# Altium integrated library NSC Discrete JFET.IntLib: 140 symbols (part 2 of 2)
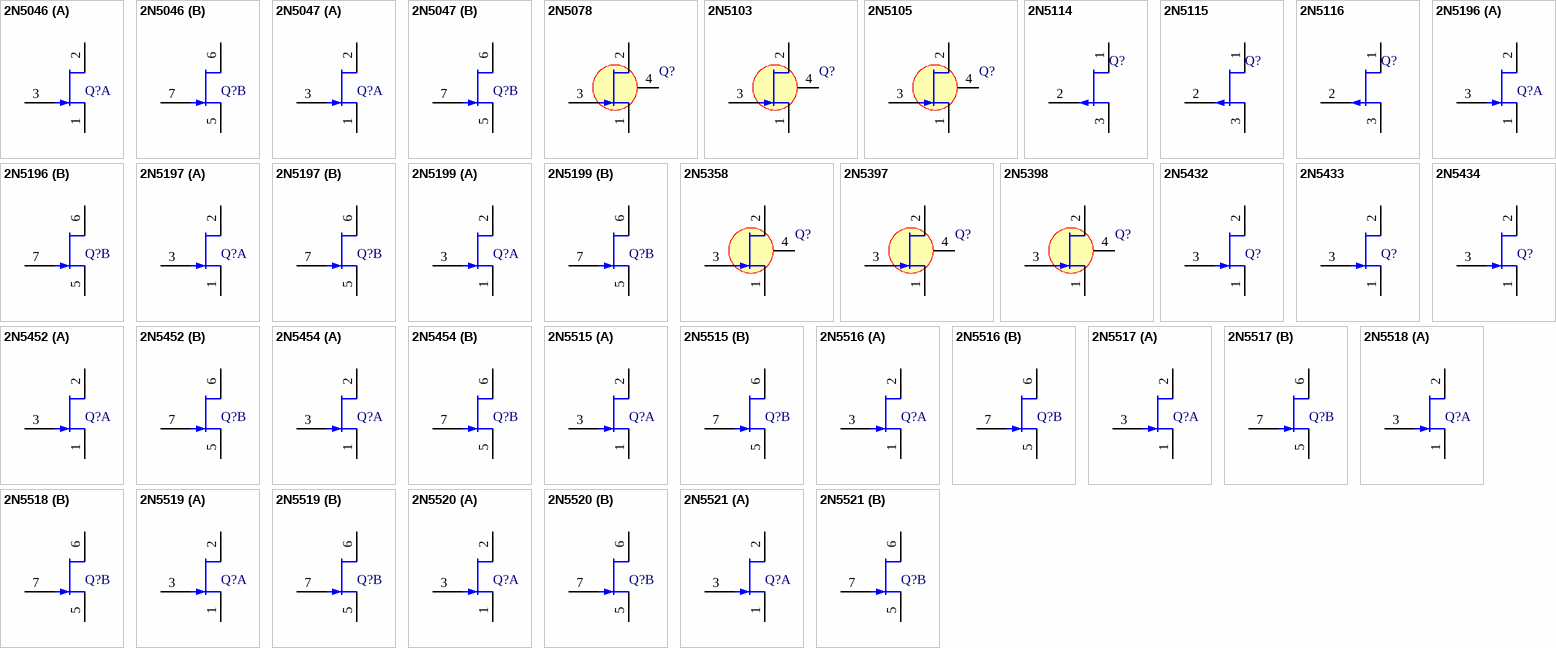
[diagram p6: symbols 2N5046 to 2N5521]

## 2N5521
designator Q?
N-Channel Dual JFET (Low Frequency-Low Noise); PackageDocument: 1989; Note: Pin 4 is missing and is not drawn; Published: 8-Jun-2000; LatestRevisionDate: 17-Jul-2002; LatestRevisionNote: Re-released for DXP Platform.; DatasheetDocument: 1989; PackageReference: TO-71; Publisher: Altium Limited; ComponentLink1Description: Manufacturer Link; ComponentLink1URL: http://www.national.com/
footprint TO-71 (Can; 7 Leads (1 Absent); Pin Circle Dia. 2.54 mm; Lead Dia. 0.48 mm (max))
simulation model 2N5521 (NJFET)
part A pins: 1 S, 2 D, 3 G
part B pins: 5 S, 6 D, 7 G

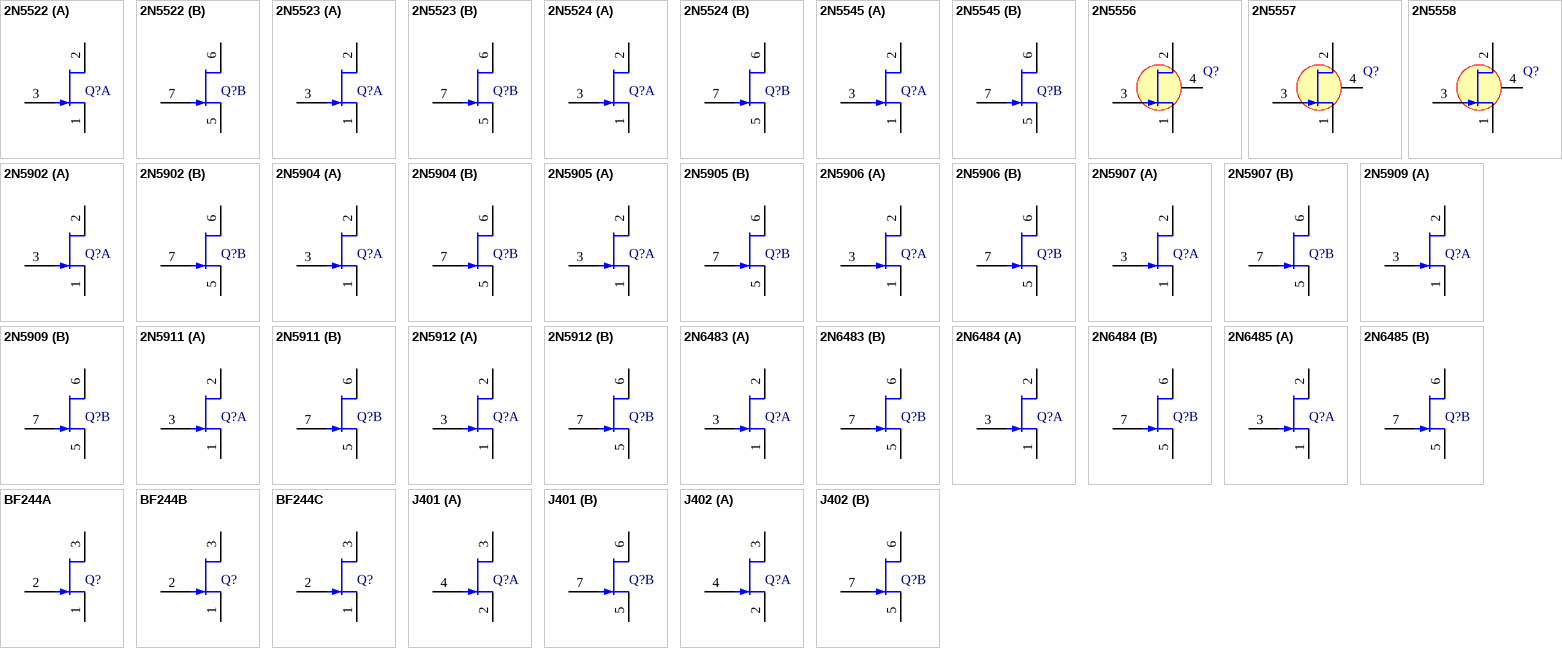
[diagram p3: symbols 2N5522 to J402]

## 2N5522
designator Q?
N-Channel Dual JFET (Low Frequency-Low Noise); PackageDocument: 1989; Note: Pin 4 is missing and is not drawn; Published: 8-Jun-2000; LatestRevisionDate: 17-Jul-2002; LatestRevisionNote: Re-released for DXP Platform.; DatasheetDocument: 1989; PackageReference: TO-71; Publisher: Altium Limited; ComponentLink1Description: Manufacturer Link; ComponentLink1URL: http://www.national.com/
footprint TO-71 (Can; 7 Leads (1 Absent); Pin Circle Dia. 2.54 mm; Lead Dia. 0.48 mm (max))
simulation model 2N5522 (NJFET)
part A pins: 1 S, 2 D, 3 G
part B pins: 5 S, 6 D, 7 G

## 2N5523
designator Q?
N-Channel Dual JFET (Low Frequency-Low Noise); PackageDocument: 1989; Note: Pin 4 is missing and is not drawn; Published: 8-Jun-2000; LatestRevisionDate: 17-Jul-2002; LatestRevisionNote: Re-released for DXP Platform.; DatasheetDocument: 1989; PackageReference: TO-71; Publisher: Altium Limited; ComponentLink1Description: Manufacturer Link; ComponentLink1URL: http://www.national.com/
footprint TO-71 (Can; 7 Leads (1 Absent); Pin Circle Dia. 2.54 mm; Lead Dia. 0.48 mm (max))
simulation model 2N5523 (NJFET)
part A pins: 1 S, 2 D, 3 G
part B pins: 5 S, 6 D, 7 G

## 2N5524
designator Q?
N-Channel Dual JFET (Low Frequency-Low Noise); PackageDocument: 1989; Note: Pin 4 is missing and is not drawn; Published: 8-Jun-2000; LatestRevisionDate: 17-Jul-2002; LatestRevisionNote: Re-released for DXP Platform.; DatasheetDocument: 1989; PackageReference: TO-71; Publisher: Altium Limited; ComponentLink1Description: Manufacturer Link; ComponentLink1URL: http://www.national.com/
footprint TO-71 (Can; 7 Leads (1 Absent); Pin Circle Dia. 2.54 mm; Lead Dia. 0.48 mm (max))
simulation model 2N5524 (NJFET)
part A pins: 1 S, 2 D, 3 G
part B pins: 5 S, 6 D, 7 G

## 2N5545
designator Q?
N-Channel Dual JFET (General Purpose); PackageDocument: 1989; Note: Pin 4 is missing and is not drawn; Published: 8-Jun-2000; LatestRevisionDate: 17-Jul-2002; LatestRevisionNote: Re-released for DXP Platform.; DatasheetDocument: 1989; PackageReference: TO-71; Publisher: Altium Limited; ComponentLink1Description: Manufacturer Link; ComponentLink1URL: http://www.national.com/
footprint TO-71 (Can; 7 Leads (1 Absent); Pin Circle Dia. 2.54 mm; Lead Dia. 0.48 mm (max))
simulation model 2N5545 (NJFET)
part A pins: 1 S, 2 D, 3 G
part B pins: 5 S, 6 D, 7 G

## 2N5556
designator Q?
N-Channel JFET (General Purpose Amplifier); PackageDocument: 1989; Note: Pin 4 is connected to case; Published: 8-Jun-2000; LatestRevisionDate: 17-Jul-2002; LatestRevisionNote: Re-released for DXP Platform.; DatasheetDocument: 1989; PackageReference: TO-72; Publisher: Altium Limited; ComponentLink1Description: Manufacturer Link; ComponentLink1URL: http://www.national.com/
footprint TO-72 (Can; 4 Leads; Pin Circle Dia. 2.54 mm; Lead Dia. 0.48 mm (max))
simulation model 2N5556 (NJFET)
pins: 1 S, 2 D, 3 G, 4 C

## 2N5557
designator Q?
N-Channel JFET (General Purpose Amplifier); PackageDocument: 1989; Note: Pin 4 is connected to case; Published: 8-Jun-2000; LatestRevisionDate: 17-Jul-2002; LatestRevisionNote: Re-released for DXP Platform.; DatasheetDocument: 1989; PackageReference: TO-72; Publisher: Altium Limited; ComponentLink1Description: Manufacturer Link; ComponentLink1URL: http://www.national.com/
footprint TO-72 (Can; 4 Leads; Pin Circle Dia. 2.54 mm; Lead Dia. 0.48 mm (max))
simulation model 2N5557 (NJFET)
pins: 1 S, 2 D, 3 G, 4 C

## 2N5558
designator Q?
N-Channel JFET (General Purpose Amplifier); PackageDocument: 1989; Note: Pin 4 is connected to case; Published: 8-Jun-2000; LatestRevisionDate: 17-Jul-2002; LatestRevisionNote: Re-released for DXP Platform.; DatasheetDocument: 1989; PackageReference: TO-72; Publisher: Altium Limited; ComponentLink1Description: Manufacturer Link; ComponentLink1URL: http://www.national.com/
footprint TO-72 (Can; 4 Leads; Pin Circle Dia. 2.54 mm; Lead Dia. 0.48 mm (max))
simulation model 2N5558 (NJFET)
pins: 1 S, 2 D, 3 G, 4 C

## 2N5902
designator Q?
N-Channel Dual JFET (Ultra Low Leakage); PackageDocument: 1989; Note: Pin 4 is not connected and not drawn; Published: 8-Jun-2000; LatestRevisionDate: 17-Jul-2002; LatestRevisionNote: Re-released for DXP Platform.; DatasheetDocument: 1989; PackageReference: TO-78; Publisher: Altium Limited; ComponentLink1Description: Manufacturer Link; ComponentLink1URL: http://www.national.com/
footprint TO-78 (Can; 7 Leads; Pin Circle Dia. 5.08 mm; Lead Dia. 0.48 mm (max))
simulation model 2N5902 (NJFET)
part A pins: 1 S, 2 D, 3 G
part B pins: 5 S, 6 D, 7 G

## 2N5904
designator Q?
N-Channel Dual JFET (Ultra Low Leakage); PackageDocument: 1989; Note: Pin 4 is not connected and not drawn; Published: 8-Jun-2000; LatestRevisionDate: 17-Jul-2002; LatestRevisionNote: Re-released for DXP Platform.; DatasheetDocument: 1989; PackageReference: TO-78; Publisher: Altium Limited; ComponentLink1Description: Manufacturer Link; ComponentLink1URL: http://www.national.com/
footprint TO-78 (Can; 7 Leads; Pin Circle Dia. 5.08 mm; Lead Dia. 0.48 mm (max))
simulation model 2N5904 (NJFET)
part A pins: 1 S, 2 D, 3 G
part B pins: 5 S, 6 D, 7 G

## 2N5905
designator Q?
N-Channel Dual JFET (Ultra Low Leakage); PackageDocument: 1989; Note: Pin 4 is not connected and not drawn; Published: 8-Jun-2000; LatestRevisionDate: 17-Jul-2002; LatestRevisionNote: Re-released for DXP Platform.; DatasheetDocument: 1989; PackageReference: TO-78; Publisher: Altium Limited; ComponentLink1Description: Manufacturer Link; ComponentLink1URL: http://www.national.com/
footprint TO-78 (Can; 7 Leads; Pin Circle Dia. 5.08 mm; Lead Dia. 0.48 mm (max))
simulation model 2N5905 (NJFET)
part A pins: 1 S, 2 D, 3 G
part B pins: 5 S, 6 D, 7 G

## 2N5906
designator Q?
N-Channel Dual JFET (Ultra Low Leakage); PackageDocument: 1989; Note: Pin 4 is not connected and not drawn; Published: 8-Jun-2000; LatestRevisionDate: 17-Jul-2002; LatestRevisionNote: Re-released for DXP Platform.; DatasheetDocument: 1989; PackageReference: TO-78; Publisher: Altium Limited; ComponentLink1Description: Manufacturer Link; ComponentLink1URL: http://www.national.com/
footprint TO-78 (Can; 7 Leads; Pin Circle Dia. 5.08 mm; Lead Dia. 0.48 mm (max))
simulation model 2N5906 (NJFET)
part A pins: 1 S, 2 D, 3 G
part B pins: 5 S, 6 D, 7 G

## 2N5907
designator Q?
N-Channel Dual JFET (Ultra Low Leakage); PackageDocument: 1989; Note: Pin 4 is not connected and not drawn; Published: 8-Jun-2000; LatestRevisionDate: 17-Jul-2002; LatestRevisionNote: Re-released for DXP Platform.; DatasheetDocument: 1989; PackageReference: TO-78; Publisher: Altium Limited; ComponentLink1Description: Manufacturer Link; ComponentLink1URL: http://www.national.com/
footprint TO-78 (Can; 7 Leads; Pin Circle Dia. 5.08 mm; Lead Dia. 0.48 mm (max))
simulation model 2N5907 (NJFET)
part A pins: 1 S, 2 D, 3 G
part B pins: 5 S, 6 D, 7 G

## 2N5909
designator Q?
N-Channel Dual JFET (Ultra Low Leakage); PackageDocument: 1989; Note: Pin 4 is not connected and not drawn; Published: 8-Jun-2000; LatestRevisionDate: 17-Jul-2002; LatestRevisionNote: Re-released for DXP Platform.; DatasheetDocument: 1989; PackageReference: TO-78; Publisher: Altium Limited; ComponentLink1Description: Manufacturer Link; ComponentLink1URL: http://www.national.com/
footprint TO-78 (Can; 7 Leads; Pin Circle Dia. 5.08 mm; Lead Dia. 0.48 mm (max))
simulation model 2N5909 (NJFET)
part A pins: 1 S, 2 D, 3 G
part B pins: 5 S, 6 D, 7 G

## 2N5911
designator Q?
N-Channel Dual JFET (Wide Band-Low Noise); PackageDocument: 1989; Note: Pin 4 is not connected and not drawn; Published: 8-Jun-2000; LatestRevisionDate: 17-Jul-2002; LatestRevisionNote: Re-released for DXP Platform.; DatasheetDocument: 1989; PackageReference: TO-78; Publisher: Altium Limited; ComponentLink1Description: Manufacturer Link; ComponentLink1URL: http://www.national.com/
footprint TO-78 (Can; 7 Leads; Pin Circle Dia. 5.08 mm; Lead Dia. 0.48 mm (max))
simulation model 2N5911 (NJFET)
part A pins: 1 S, 2 D, 3 G
part B pins: 5 S, 6 D, 7 G

## 2N5912
designator Q?
N-Channel Dual JFET (Wide Band-Low Noise); PackageDocument: 1989; Note: Pin 4 is not connected and not drawn; Published: 8-Jun-2000; LatestRevisionDate: 17-Jul-2002; LatestRevisionNote: Re-released for DXP Platform.; DatasheetDocument: 1989; PackageReference: TO-78; Publisher: Altium Limited; ComponentLink1Description: Manufacturer Link; ComponentLink1URL: http://www.national.com/
footprint TO-78 (Can; 7 Leads; Pin Circle Dia. 5.08 mm; Lead Dia. 0.48 mm (max))
simulation model 2N5912 (NJFET)
part A pins: 1 S, 2 D, 3 G
part B pins: 5 S, 6 D, 7 G

## 2N6483
designator Q?
N-Channel Dual JFET (Low Frequency-Low Noise); PackageDocument: 1989; Note: Pin 4 is missing and is not drawn; Published: 8-Jun-2000; LatestRevisionDate: 17-Jul-2002; LatestRevisionNote: Re-released for DXP Platform.; DatasheetDocument: 1989; PackageReference: TO-71; Publisher: Altium Limited; ComponentLink1Description: Manufacturer Link; ComponentLink1URL: http://www.national.com/
footprint TO-71 (Can; 7 Leads (1 Absent); Pin Circle Dia. 2.54 mm; Lead Dia. 0.48 mm (max))
simulation model 2N6483 (NJFET)
part A pins: 1 S, 2 D, 3 G
part B pins: 5 S, 6 D, 7 G

## 2N6484
designator Q?
N-Channel Dual JFET (Low Frequency-Low Noise); PackageDocument: 1989; Note: Pin 4 is missing and is not drawn; Published: 8-Jun-2000; LatestRevisionDate: 17-Jul-2002; LatestRevisionNote: Re-released for DXP Platform.; DatasheetDocument: 1989; PackageReference: TO-71; Publisher: Altium Limited; ComponentLink1Description: Manufacturer Link; ComponentLink1URL: http://www.national.com/
footprint TO-71 (Can; 7 Leads (1 Absent); Pin Circle Dia. 2.54 mm; Lead Dia. 0.48 mm (max))
simulation model 2N6484 (NJFET)
part A pins: 1 S, 2 D, 3 G
part B pins: 5 S, 6 D, 7 G

## 2N6485
designator Q?
N-Channel Dual JFET (Low Frequency-Low Noise); PackageDocument: 1989; Note: Pin 4 is missing and is not drawn; Published: 8-Jun-2000; LatestRevisionDate: 17-Jul-2002; LatestRevisionNote: Re-released for DXP Platform.; DatasheetDocument: 1989; PackageReference: TO-71; Publisher: Altium Limited; ComponentLink1Description: Manufacturer Link; ComponentLink1URL: http://www.national.com/
footprint TO-71 (Can; 7 Leads (1 Absent); Pin Circle Dia. 2.54 mm; Lead Dia. 0.48 mm (max))
simulation model 2N6485 (NJFET)
part A pins: 1 S, 2 D, 3 G
part B pins: 5 S, 6 D, 7 G

## BF244A
designator Q?
JFET Pro Electron; PackageDocument: 1989; Published: 8-Jun-2000; LatestRevisionDate: 17-Jul-2002; LatestRevisionNote: Re-released for DXP Platform.; DatasheetDocument: 1989; PackageReference: TO-92; Publisher: Altium Limited; ComponentLink1Description: Manufacturer Link; ComponentLink1URL: http://www.national.com/
footprint TO-92 (TO, Flat Index; 3 In-Line, Axial Leads; Body Dia. 4.6mm; Leads 0.41 x 0.39 mm (max))
simulation model BF244A (NJFET)
pins: 1 S, 2 G, 3 D

## BF244B
designator Q?
JFET Pro Electron; PackageDocument: 1989; Published: 8-Jun-2000; LatestRevisionDate: 17-Jul-2002; LatestRevisionNote: Re-released for DXP Platform.; DatasheetDocument: 1989; PackageReference: TO-92; Publisher: Altium Limited; ComponentLink1Description: Manufacturer Link; ComponentLink1URL: http://www.national.com/
footprint TO-92 (TO, Flat Index; 3 In-Line, Axial Leads; Body Dia. 4.6mm; Leads 0.41 x 0.39 mm (max))
simulation model BF244B (NJFET)
pins: 1 S, 2 G, 3 D

## BF244C
designator Q?
JFET Pro Electron; PackageDocument: 1989; Published: 8-Jun-2000; LatestRevisionDate: 17-Jul-2002; LatestRevisionNote: Re-released for DXP Platform.; DatasheetDocument: 1989; PackageReference: TO-92; Publisher: Altium Limited; ComponentLink1Description: Manufacturer Link; ComponentLink1URL: http://www.national.com/
footprint TO-92 (TO, Flat Index; 3 In-Line, Axial Leads; Body Dia. 4.6mm; Leads 0.41 x 0.39 mm (max))
simulation model BF244C (NJFET)
pins: 1 S, 2 G, 3 D

## J401
designator Q?
N-Channel Dual JFET (General Purpose); Note: Pins 1 and 8 are not connected and not drawn; Published: 8-Jun-2000; LatestRevisionDate: 06-Jun-2005; LatestRevisionNote: Stylized 3D Model Added.; DatasheetDocument: 1989; PackageDocument: Sep-1997; PackageReference: N08E; Publisher: Altium Limited; ComponentLink1Description: Manufacturer Link; ComponentLink1URL: http://www.national.com/
footprint N08E (DIP; 8 Leads; Row Spacing 7.62 mm; Pitch 2.54 mm)
3D model N08E (DIP; 8 Leads; Row Spacing 7.62 mm; Pitch 2.54 mm)
simulation model J401 (NJFET)
part A pins: 2 S, 3 D, 4 G
part B pins: 5 S, 6 D, 7 G

## J402
designator Q?
N-Channel Dual JFET (General Purpose); Note: Pins 1 and 8 are not connected and not drawn; Published: 8-Jun-2000; LatestRevisionDate: 06-Jun-2005; LatestRevisionNote: Stylized 3D Model Added.; DatasheetDocument: 1989; PackageDocument: Sep-1997; PackageReference: N08E; Publisher: Altium Limited; ComponentLink1Description: Manufacturer Link; ComponentLink1URL: http://www.national.com/
footprint N08E (DIP; 8 Leads; Row Spacing 7.62 mm; Pitch 2.54 mm)
3D model N08E (DIP; 8 Leads; Row Spacing 7.62 mm; Pitch 2.54 mm)
simulation model J402 (NJFET)
part A pins: 2 S, 3 D, 4 G
part B pins: 5 S, 6 D, 7 G

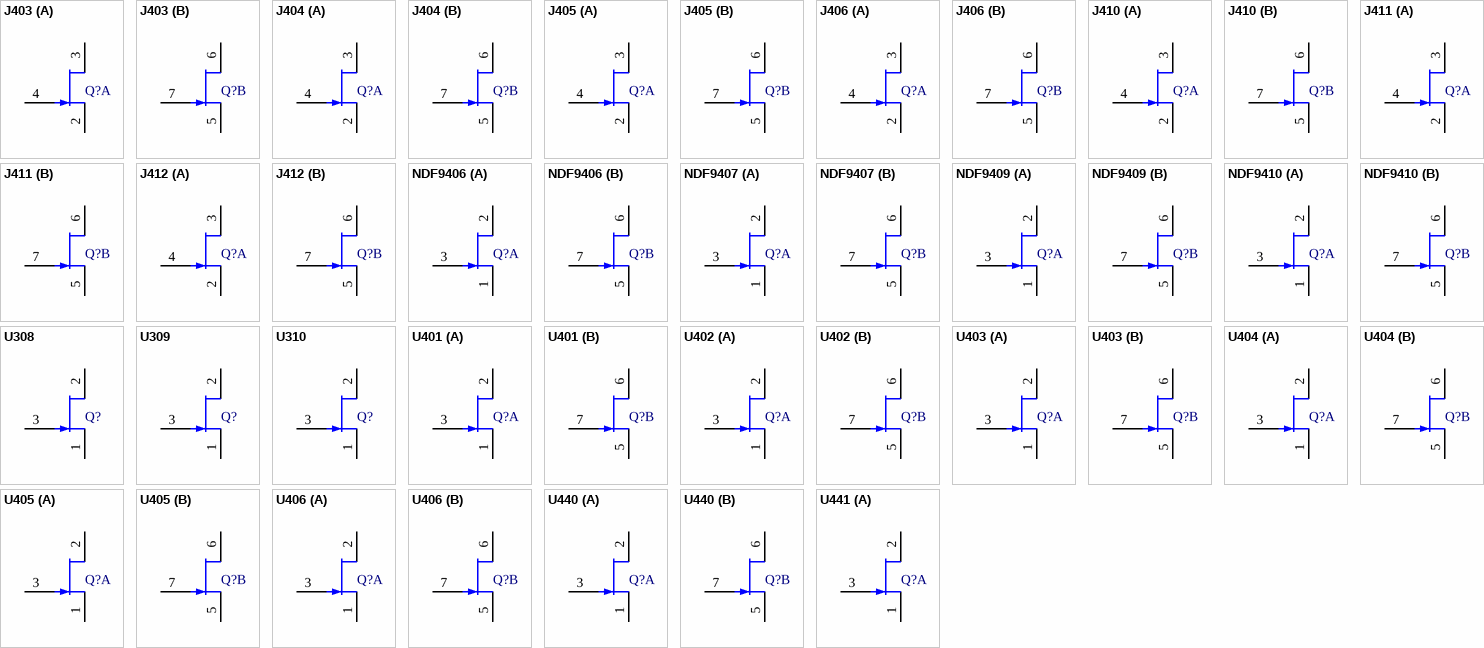
[diagram p4: symbols J403 to U441]

## J403
designator Q?
N-Channel Dual JFET (General Purpose); Note: Pins 1 and 8 are not connected and not drawn; Published: 8-Jun-2000; LatestRevisionDate: 06-Jun-2005; LatestRevisionNote: Stylized 3D Model Added.; DatasheetDocument: 1989; PackageDocument: Sep-1997; PackageReference: N08E; Publisher: Altium Limited; ComponentLink1Description: Manufacturer Link; ComponentLink1URL: http://www.national.com/
footprint N08E (DIP; 8 Leads; Row Spacing 7.62 mm; Pitch 2.54 mm)
3D model N08E (DIP; 8 Leads; Row Spacing 7.62 mm; Pitch 2.54 mm)
simulation model J403 (NJFET)
part A pins: 2 S, 3 D, 4 G
part B pins: 5 S, 6 D, 7 G

## J404
designator Q?
N-Channel Dual JFET (General Purpose); Note: Pins 1 and 8 are not connected and not drawn; Published: 8-Jun-2000; LatestRevisionDate: 06-Jun-2005; LatestRevisionNote: Stylized 3D Model Added.; DatasheetDocument: 1989; PackageDocument: Sep-1997; PackageReference: N08E; Publisher: Altium Limited; ComponentLink1Description: Manufacturer Link; ComponentLink1URL: http://www.national.com/
footprint N08E (DIP; 8 Leads; Row Spacing 7.62 mm; Pitch 2.54 mm)
3D model N08E (DIP; 8 Leads; Row Spacing 7.62 mm; Pitch 2.54 mm)
simulation model J404 (NJFET)
part A pins: 2 S, 3 D, 4 G
part B pins: 5 S, 6 D, 7 G

## J405
designator Q?
N-Channel Dual JFET (General Purpose); Note: Pins 1 and 8 are not connected and not drawn; Published: 8-Jun-2000; LatestRevisionDate: 06-Jun-2005; LatestRevisionNote: Stylized 3D Model Added.; DatasheetDocument: 1989; PackageDocument: Sep-1997; PackageReference: N08E; Publisher: Altium Limited; ComponentLink1Description: Manufacturer Link; ComponentLink1URL: http://www.national.com/
footprint N08E (DIP; 8 Leads; Row Spacing 7.62 mm; Pitch 2.54 mm)
3D model N08E (DIP; 8 Leads; Row Spacing 7.62 mm; Pitch 2.54 mm)
simulation model J405 (NJFET)
part A pins: 2 S, 3 D, 4 G
part B pins: 5 S, 6 D, 7 G

## J406
designator Q?
N-Channel Dual JFET (General Purpose); Note: Pins 1 and 8 are not connected and not drawn; Published: 8-Jun-2000; LatestRevisionDate: 06-Jun-2005; LatestRevisionNote: Stylized 3D Model Added.; DatasheetDocument: 1989; PackageDocument: Sep-1997; PackageReference: N08E; Publisher: Altium Limited; ComponentLink1Description: Manufacturer Link; ComponentLink1URL: http://www.national.com/
footprint N08E (DIP; 8 Leads; Row Spacing 7.62 mm; Pitch 2.54 mm)
3D model N08E (DIP; 8 Leads; Row Spacing 7.62 mm; Pitch 2.54 mm)
simulation model J406 (NJFET)
part A pins: 2 S, 3 D, 4 G
part B pins: 5 S, 6 D, 7 G

## J410
designator Q?
N-Channel Dual JFET (General Purpose); Note: Pins 1 and 8 are not connected and not drawn; Published: 8-Jun-2000; LatestRevisionDate: 06-Jun-2005; LatestRevisionNote: Stylized 3D Model Added.; DatasheetDocument: 1989; PackageDocument: Sep-1997; PackageReference: N08E; Publisher: Altium Limited; ComponentLink1Description: Manufacturer Link; ComponentLink1URL: http://www.national.com/
footprint N08E (DIP; 8 Leads; Row Spacing 7.62 mm; Pitch 2.54 mm)
3D model N08E (DIP; 8 Leads; Row Spacing 7.62 mm; Pitch 2.54 mm)
simulation model J410 (NJFET)
part A pins: 2 S, 3 D, 4 G
part B pins: 5 S, 6 D, 7 G

## J411
designator Q?
N-Channel Dual JFET (General Purpose); Note: Pins 1 and 8 are not connected and not drawn; Published: 8-Jun-2000; LatestRevisionDate: 06-Jun-2005; LatestRevisionNote: Stylized 3D Model Added.; DatasheetDocument: 1989; PackageDocument: Sep-1997; PackageReference: N08E; Publisher: Altium Limited; ComponentLink1Description: Manufacturer Link; ComponentLink1URL: http://www.national.com/
footprint N08E (DIP; 8 Leads; Row Spacing 7.62 mm; Pitch 2.54 mm)
3D model N08E (DIP; 8 Leads; Row Spacing 7.62 mm; Pitch 2.54 mm)
simulation model J411 (NJFET)
part A pins: 2 S, 3 D, 4 G
part B pins: 5 S, 6 D, 7 G

## J412
designator Q?
N-Channel Dual JFET (General Purpose); Note: Pins 1 and 8 are not connected and not drawn; Published: 8-Jun-2000; LatestRevisionDate: 06-Jun-2005; LatestRevisionNote: Stylized 3D Model Added.; DatasheetDocument: 1989; PackageDocument: Sep-1997; PackageReference: N08E; Publisher: Altium Limited; ComponentLink1Description: Manufacturer Link; ComponentLink1URL: http://www.national.com/
footprint N08E (DIP; 8 Leads; Row Spacing 7.62 mm; Pitch 2.54 mm)
3D model N08E (DIP; 8 Leads; Row Spacing 7.62 mm; Pitch 2.54 mm)
simulation model J412 (NJFET)
part A pins: 2 S, 3 D, 4 G
part B pins: 5 S, 6 D, 7 G

## NDF9406
designator Q?
N-Channel Dual JFET (Low Leakage-High CMRR-Wide Band); PackageDocument: 1989; Note: Pin 4 is missing and is not drawn; Published: 8-Jun-2000; LatestRevisionDate: 17-Jul-2002; LatestRevisionNote: Re-released for DXP Platform.; DatasheetDocument: 1989; PackageReference: TO-71; Publisher: Altium Limited; ComponentLink1Description: Manufacturer Link; ComponentLink1URL: http://www.national.com/
footprint TO-71 (Can; 7 Leads (1 Absent); Pin Circle Dia. 2.54 mm; Lead Dia. 0.48 mm (max))
simulation model NDF9406 (NJFET)
part A pins: 1 S, 2 D, 3 G
part B pins: 5 S, 6 D, 7 G

## NDF9407
designator Q?
N-Channel Dual JFET (Low Leakage-High CMRR-Wide Band); PackageDocument: 1989; Note: Pin 4 is missing and is not drawn; Published: 8-Jun-2000; LatestRevisionDate: 17-Jul-2002; LatestRevisionNote: Re-released for DXP Platform.; DatasheetDocument: 1989; PackageReference: TO-71; Publisher: Altium Limited; ComponentLink1Description: Manufacturer Link; ComponentLink1URL: http://www.national.com/
footprint TO-71 (Can; 7 Leads (1 Absent); Pin Circle Dia. 2.54 mm; Lead Dia. 0.48 mm (max))
simulation model NDF9407 (NJFET)
part A pins: 1 S, 2 D, 3 G
part B pins: 5 S, 6 D, 7 G

## NDF9409
designator Q?
N-Channel Dual JFET (Low Leakage-High CMRR-Wide Band); PackageDocument: 1989; Note: Pin 4 is missing and is not drawn; Published: 8-Jun-2000; LatestRevisionDate: 17-Jul-2002; LatestRevisionNote: Re-released for DXP Platform.; DatasheetDocument: 1989; PackageReference: TO-71; Publisher: Altium Limited; ComponentLink1Description: Manufacturer Link; ComponentLink1URL: http://www.national.com/
footprint TO-71 (Can; 7 Leads (1 Absent); Pin Circle Dia. 2.54 mm; Lead Dia. 0.48 mm (max))
simulation model NDF9409 (NJFET)
part A pins: 1 S, 2 D, 3 G
part B pins: 5 S, 6 D, 7 G

## NDF9410
designator Q?
N-Channel Dual JFET (Low Leakage-High CMRR-Wide Band); PackageDocument: 1989; Note: Pin 4 is missing and is not drawn; Published: 8-Jun-2000; LatestRevisionDate: 17-Jul-2002; LatestRevisionNote: Re-released for DXP Platform.; DatasheetDocument: 1989; PackageReference: TO-71; Publisher: Altium Limited; ComponentLink1Description: Manufacturer Link; ComponentLink1URL: http://www.national.com/
footprint TO-71 (Can; 7 Leads (1 Absent); Pin Circle Dia. 2.54 mm; Lead Dia. 0.48 mm (max))
simulation model NDF9410 (NJFET)
part A pins: 1 S, 2 D, 3 G
part B pins: 5 S, 6 D, 7 G

## U308
designator Q?
N-Channel JFET (RF, VHF, UHF, Amplifier); PackageDocument: 1989; Published: 8-Jun-2000; LatestRevisionDate: 17-Jul-2002; LatestRevisionNote: Re-released for DXP Platform.; DatasheetDocument: 1989; PackageReference: TO-52; Publisher: Altium Limited; ComponentLink1Description: Manufacturer Link; ComponentLink1URL: http://www.national.com/
footprint TO-52 (Can; 3 Leads; Pin Circle Dia. 2.54 mm; Lead Dia. 0.48 mm (max))
simulation model U308 (NJFET)
pins: 1 S, 2 D, 3 G

## U309
designator Q?
N-Channel JFET (RF, VHF, UHF, Amplifier); PackageDocument: 1989; Published: 8-Jun-2000; LatestRevisionDate: 17-Jul-2002; LatestRevisionNote: Re-released for DXP Platform.; DatasheetDocument: 1989; PackageReference: TO-52; Publisher: Altium Limited; ComponentLink1Description: Manufacturer Link; ComponentLink1URL: http://www.national.com/
footprint TO-52 (Can; 3 Leads; Pin Circle Dia. 2.54 mm; Lead Dia. 0.48 mm (max))
simulation model U309 (NJFET)
pins: 1 S, 2 D, 3 G

## U310
designator Q?
N-Channel JFET (RF, VHF, UHF, Amplifier); PackageDocument: 1989; Published: 8-Jun-2000; LatestRevisionDate: 17-Jul-2002; LatestRevisionNote: Re-released for DXP Platform.; DatasheetDocument: 1989; PackageReference: TO-52; Publisher: Altium Limited; ComponentLink1Description: Manufacturer Link; ComponentLink1URL: http://www.national.com/
footprint TO-52 (Can; 3 Leads; Pin Circle Dia. 2.54 mm; Lead Dia. 0.48 mm (max))
simulation model U310 (NJFET)
pins: 1 S, 2 D, 3 G

## U401
designator Q?
N-Channel Dual JFET (General Purpose); PackageDocument: 1989; Note: Pin 4 is missing and is not drawn; Published: 8-Jun-2000; LatestRevisionDate: 17-Jul-2002; LatestRevisionNote: Re-released for DXP Platform.; DatasheetDocument: 1989; PackageReference: TO-71; Publisher: Altium Limited; ComponentLink1Description: Manufacturer Link; ComponentLink1URL: http://www.national.com/
footprint TO-71 (Can; 7 Leads (1 Absent); Pin Circle Dia. 2.54 mm; Lead Dia. 0.48 mm (max))
simulation model U401 (NJFET)
part A pins: 1 S, 2 D, 3 G
part B pins: 5 S, 6 D, 7 G

## U402
designator Q?
N-Channel Dual JFET (General Purpose); PackageDocument: 1989; Note: Pin 4 is missing and is not drawn; Published: 8-Jun-2000; LatestRevisionDate: 17-Jul-2002; LatestRevisionNote: Re-released for DXP Platform.; DatasheetDocument: 1989; PackageReference: TO-71; Publisher: Altium Limited; ComponentLink1Description: Manufacturer Link; ComponentLink1URL: http://www.national.com/
footprint TO-71 (Can; 7 Leads (1 Absent); Pin Circle Dia. 2.54 mm; Lead Dia. 0.48 mm (max))
simulation model U402 (NJFET)
part A pins: 1 S, 2 D, 3 G
part B pins: 5 S, 6 D, 7 G

## U403
designator Q?
N-Channel Dual JFET (General Purpose); PackageDocument: 1989; Note: Pin 4 is missing and is not drawn; Published: 8-Jun-2000; LatestRevisionDate: 17-Jul-2002; LatestRevisionNote: Re-released for DXP Platform.; DatasheetDocument: 1989; PackageReference: TO-71; Publisher: Altium Limited; ComponentLink1Description: Manufacturer Link; ComponentLink1URL: http://www.national.com/
footprint TO-71 (Can; 7 Leads (1 Absent); Pin Circle Dia. 2.54 mm; Lead Dia. 0.48 mm (max))
simulation model U403 (NJFET)
part A pins: 1 S, 2 D, 3 G
part B pins: 5 S, 6 D, 7 G

## U404
designator Q?
N-Channel Dual JFET (General Purpose); PackageDocument: 1989; Note: Pin 4 is missing and is not drawn; Published: 8-Jun-2000; LatestRevisionDate: 17-Jul-2002; LatestRevisionNote: Re-released for DXP Platform.; DatasheetDocument: 1989; PackageReference: TO-71; Publisher: Altium Limited; ComponentLink1Description: Manufacturer Link; ComponentLink1URL: http://www.national.com/
footprint TO-71 (Can; 7 Leads (1 Absent); Pin Circle Dia. 2.54 mm; Lead Dia. 0.48 mm (max))
simulation model U404 (NJFET)
part A pins: 1 S, 2 D, 3 G
part B pins: 5 S, 6 D, 7 G

## U405
designator Q?
N-Channel Dual JFET (General Purpose); PackageDocument: 1989; Note: Pin 4 is missing and is not drawn; Published: 8-Jun-2000; LatestRevisionDate: 17-Jul-2002; LatestRevisionNote: Re-released for DXP Platform.; DatasheetDocument: 1989; PackageReference: TO-71; Publisher: Altium Limited; ComponentLink1Description: Manufacturer Link; ComponentLink1URL: http://www.national.com/
footprint TO-71 (Can; 7 Leads (1 Absent); Pin Circle Dia. 2.54 mm; Lead Dia. 0.48 mm (max))
simulation model U405 (NJFET)
part A pins: 1 S, 2 D, 3 G
part B pins: 5 S, 6 D, 7 G

## U406
designator Q?
N-Channel Dual JFET (General Purpose); PackageDocument: 1989; Note: Pin 4 is missing and is not drawn; Published: 8-Jun-2000; LatestRevisionDate: 17-Jul-2002; LatestRevisionNote: Re-released for DXP Platform.; DatasheetDocument: 1989; PackageReference: TO-71; Publisher: Altium Limited; ComponentLink1Description: Manufacturer Link; ComponentLink1URL: http://www.national.com/
footprint TO-71 (Can; 7 Leads (1 Absent); Pin Circle Dia. 2.54 mm; Lead Dia. 0.48 mm (max))
simulation model U406 (NJFET)
part A pins: 1 S, 2 D, 3 G
part B pins: 5 S, 6 D, 7 G

## U440
designator Q?
N-Channel Dual JFET (Wide Band-Low Noise); PackageDocument: 1989; Note: Pin 4 is missing and is not drawn; Published: 8-Jun-2000; LatestRevisionDate: 17-Jul-2002; LatestRevisionNote: Re-released for DXP Platform.; DatasheetDocument: 1989; PackageReference: TO-71; Publisher: Altium Limited; ComponentLink1Description: Manufacturer Link; ComponentLink1URL: http://www.national.com/
footprint TO-71 (Can; 7 Leads (1 Absent); Pin Circle Dia. 2.54 mm; Lead Dia. 0.48 mm (max))
simulation model U440 (NJFET)
part A pins: 1 S, 2 D, 3 G
part B pins: 5 S, 6 D, 7 G

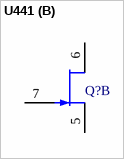
[diagram p5: symbol U441]

## U441
designator Q?
N-Channel Dual JFET (Wide Band-Low Noise); PackageDocument: 1989; Note: Pin 4 is missing and is not drawn; Published: 8-Jun-2000; LatestRevisionDate: 17-Jul-2002; LatestRevisionNote: Re-released for DXP Platform.; DatasheetDocument: 1989; PackageReference: TO-71; Publisher: Altium Limited; ComponentLink1Description: Manufacturer Link; ComponentLink1URL: http://www.national.com/
footprint TO-71 (Can; 7 Leads (1 Absent); Pin Circle Dia. 2.54 mm; Lead Dia. 0.48 mm (max))
simulation model U441 (NJFET)
part A pins: 1 S, 2 D, 3 G
part B pins: 5 S, 6 D, 7 G